# EAGLE library part ATSAMA5D3 (library atmel-custom)
The SAMA5D35 is an ARM® Cortex™-A5 processor-based embedded microprocessor unit (eMPU) operating at 536MHz (850DMIPS).
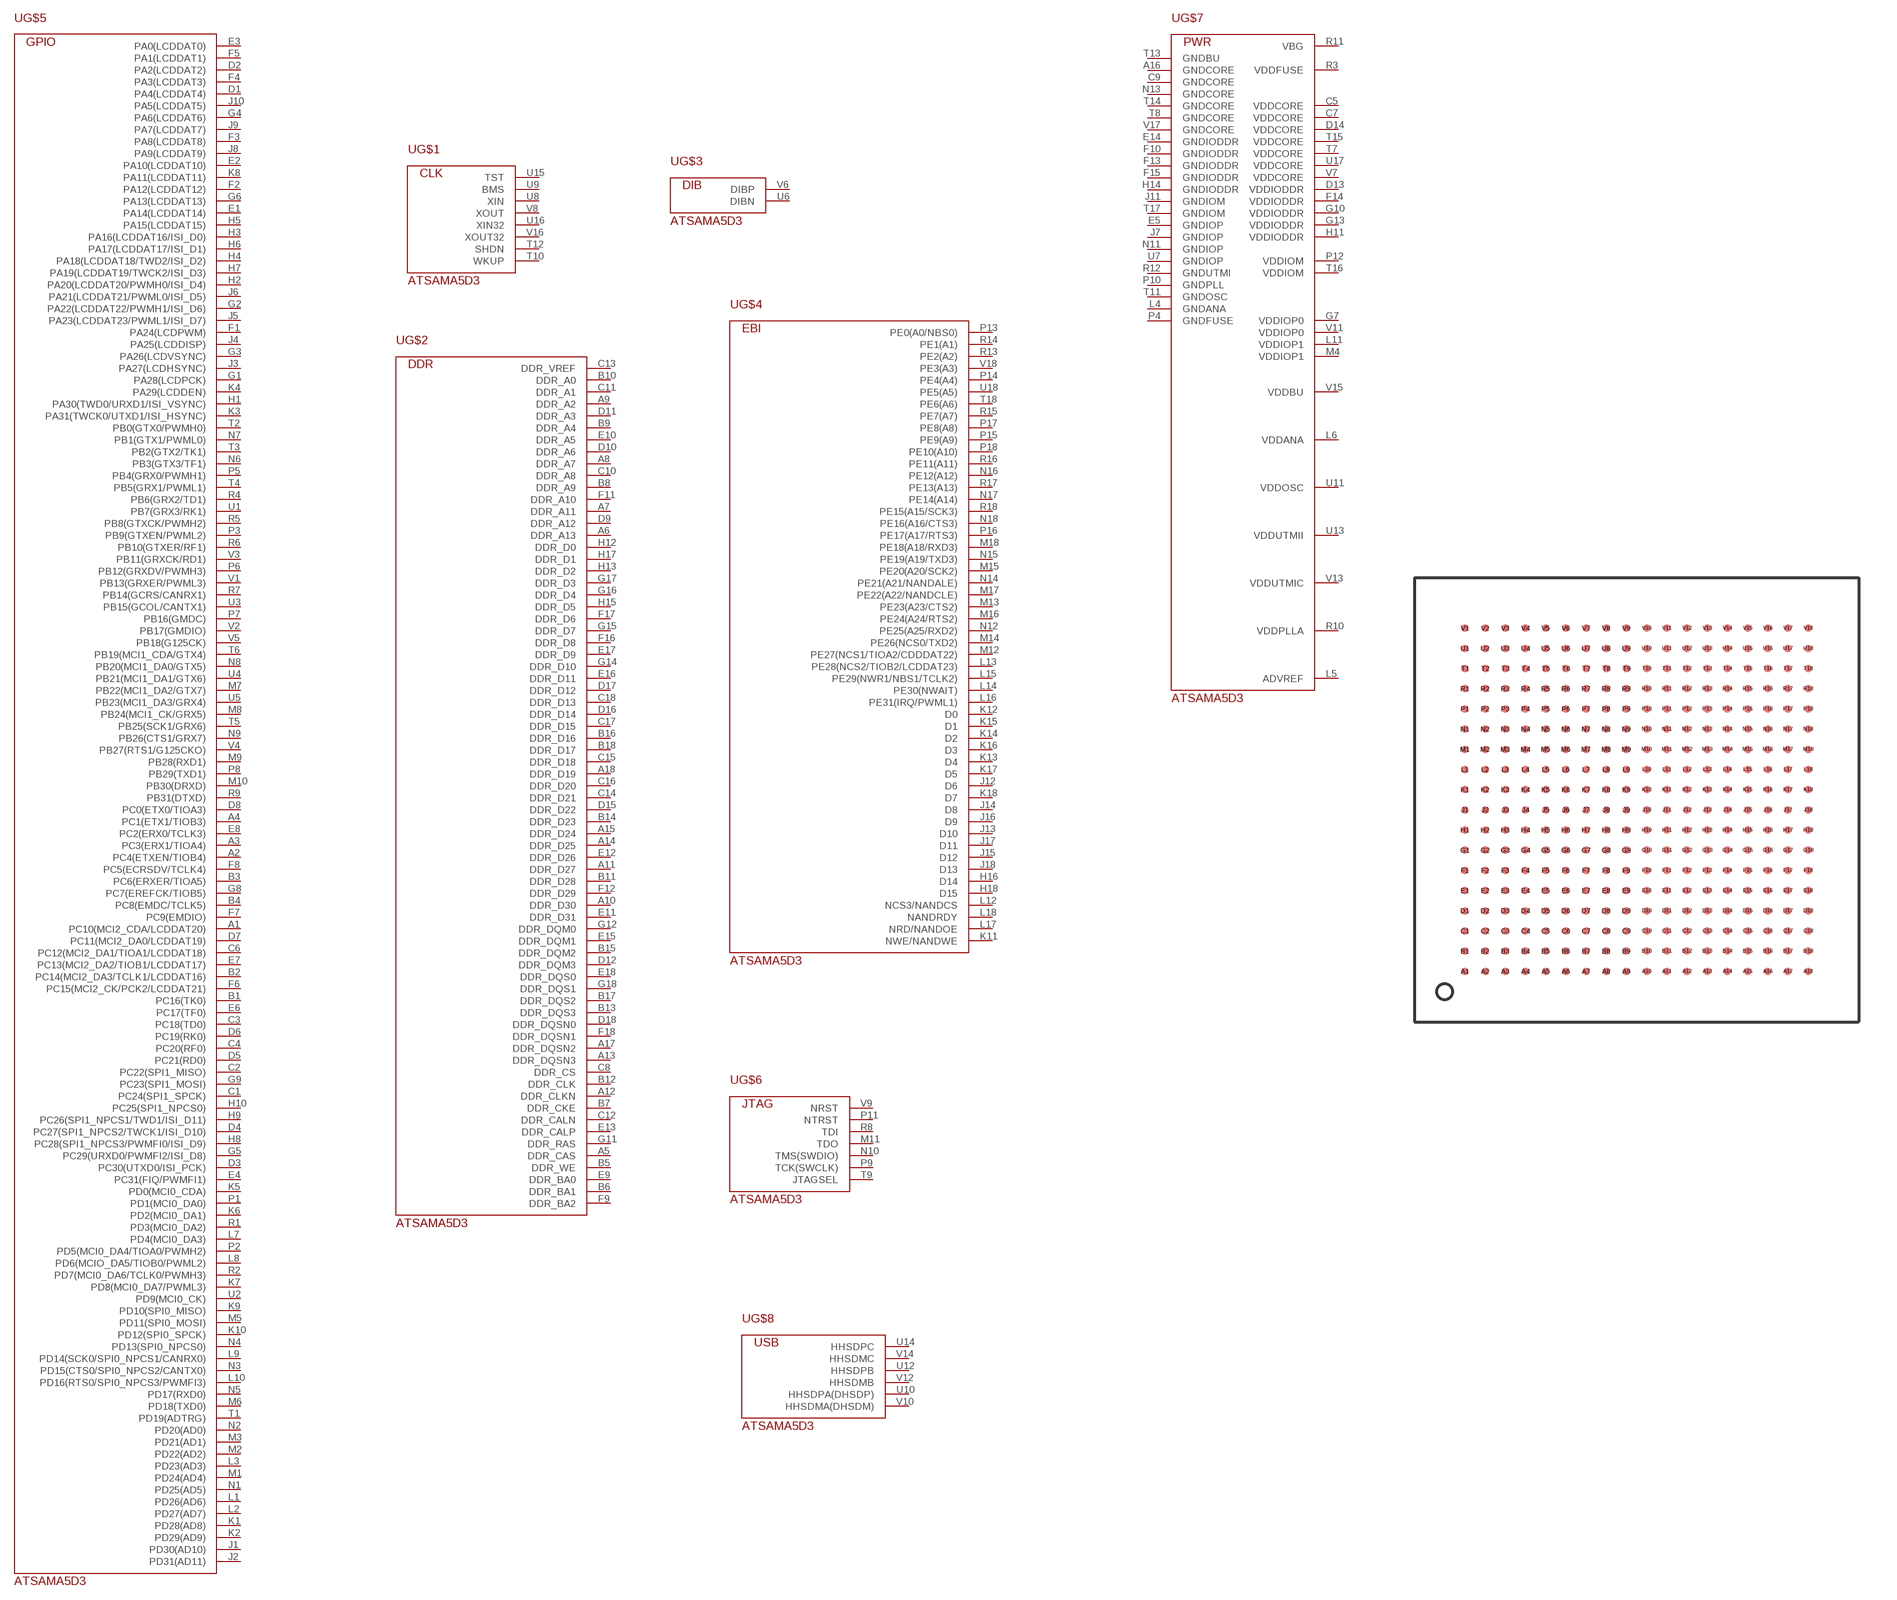
[diagram p1: symbol with the pads of LFBGA-324; footprint LFBGA-324]

Designator prefix -; gates G$1=ATSAMA5D3-CLK G$2=ATSAMA5D3-DDR G$3=ATSAMA5D3-DIB G$4=ATSAMA5D3-EBI G$5=ATSAMA5D3-GPIO G$6=ATSAMA5D3-JTAG G$7=ATSAMA5D3-PWR G$8=ATSAMA5D3-USB

## ATSAMA5D3  [LFBGA-324]
A1  G$5:PC10(MCI2_CDA/LCDDAT20)
A2  G$5:PC4(ETXEN/TIOB4)
A3  G$5:PC3(ERX1/TIOA4)
A4  G$5:PC1(ETX1/TIOB3)
A5  G$2:DDR_CAS
A6  G$2:DDR_A13
A7  G$2:DDR_A11
A8  G$2:DDR_A7
A9  G$2:DDR_A2
A10  G$2:DDR_D30
A11  G$2:DDR_D27
A12  G$2:DDR_CLKN
A13  G$2:DDR_DQSN3
A14  G$2:DDR_D25
A15  G$2:DDR_D24
A16  G$7:GNDCORE
A17  G$2:DDR_DQSN2
A18  G$2:DDR_D19
B1  G$5:PC16(TK0)
B2  G$5:PC14(MCI2_DA3/TCLK1/LCDDAT16)
B3  G$5:PC6(ERXER/TIOA5)
B4  G$5:PC8(EMDC/TCLK5)
B5  G$2:DDR_WE
B6  G$2:DDR_BA1
B7  G$2:DDR_CKE
B8  G$2:DDR_A9
B9  G$2:DDR_A4
B10  G$2:DDR_A0
B11  G$2:DDR_D28
B12  G$2:DDR_CLK
B13  G$2:DDR_DQS3
B14  G$2:DDR_D23
B15  G$2:DDR_DQM2
B16  G$2:DDR_D16
B17  G$2:DDR_DQS2
B18  G$2:DDR_D17
C1  G$5:PC24(SPI1_SPCK)
C2  G$5:PC22(SPI1_MISO)
C3  G$5:PC18(TD0)
C4  G$5:PC20(RF0)
C5  G$7:VDDCORE
C6  G$5:PC12(MCI2_DA1/TIOA1/LCDDAT18)
C7  G$7:VDDCORE
C8  G$2:DDR_CS
C9  G$7:GNDCORE
C10  G$2:DDR_A8
C11  G$2:DDR_A1
C12  G$2:DDR_CALN
C13  G$2:DDR_VREF
C14  G$2:DDR_D21
C15  G$2:DDR_D18
C16  G$2:DDR_D20
C17  G$2:DDR_D15
C18  G$2:DDR_D13
D1  G$5:PA4(LCDDAT4)
D2  G$5:PA2(LCDDAT2)
D3  G$5:PC30(UTXD0/ISI_PCK)
D4  G$5:PC27(SPI1_NPCS2/TWCK1/ISI_D10)
D5  G$5:PC21(RD0)
D6  G$5:PC19(RK0)
D7  G$5:PC11(MCI2_DA0/LCDDAT19)
D8  G$5:PC0(ETX0/TIOA3)
D9  G$2:DDR_A12
D10  G$2:DDR_A6
D11  G$2:DDR_A3
D12  G$2:DDR_DQM3
D13  G$7:VDDIODDR
D14  G$7:VDDCORE
D15  G$2:DDR_D22
D16  G$2:DDR_D14
D17  G$2:DDR_D12
D18  G$2:DDR_DQSN0
E1  G$5:PA14(LCDDAT14)
E2  G$5:PA10(LCDDAT10)
E3  G$5:PA0(LCDDAT0)
E4  G$5:PC31(FIQ/PWMFI1)
E5  G$7:GNDIOP
E6  G$5:PC17(TF0)
E7  G$5:PC13(MCI2_DA2/TIOB1/LCDDAT17)
E8  G$5:PC2(ERX0/TCLK3)
E9  G$2:DDR_BA0
E10  G$2:DDR_A5
E11  G$2:DDR_D31
E12  G$2:DDR_D26
E13  G$2:DDR_CALP
E14  G$7:GNDIODDR
E15  G$2:DDR_DQM1
E16  G$2:DDR_D11
E17  G$2:DDR_D9
E18  G$2:DDR_DQS0
F1  G$5:PA24(LCDPWM)
F2  G$5:PA12(LCDDAT12)
F3  G$5:PA8(LCDDAT8)
F4  G$5:PA3(LCDDAT3)
F5  G$5:PA1(LCDDAT1)
F6  G$5:PC15(MCI2_CK/PCK2/LCDDAT21)
F7  G$5:PC9(EMDIO)
F8  G$5:PC5(ECRSDV/TCLK4)
F9  G$2:DDR_BA2
F10  G$7:GNDIODDR
F11  G$2:DDR_A10
F12  G$2:DDR_D29
F13  G$7:GNDIODDR
F14  G$7:VDDIODDR
F15  G$7:GNDIODDR
F16  G$2:DDR_D8
F17  G$2:DDR_D6
F18  G$2:DDR_DQSN1
G1  G$5:PA28(LCDPCK)
G2  G$5:PA22(LCDDAT22/PWMH1/ISI_D6)
G3  G$5:PA26(LCDVSYNC)
G4  G$5:PA6(LCDDAT6)
G5  G$5:PC29(URXD0/PWMFI2/ISI_D8)
G6  G$5:PA13(LCDDAT13)
G7  G$7:VDDIOP0
G8  G$5:PC7(EREFCK/TIOB5)
G9  G$5:PC23(SPI1_MOSI)
G10  G$7:VDDIODDR
G11  G$2:DDR_RAS
G12  G$2:DDR_DQM0
G13  G$7:VDDIODDR
G14  G$2:DDR_D10
G15  G$2:DDR_D7
G16  G$2:DDR_D4
G17  G$2:DDR_D3
G18  G$2:DDR_DQS1
H1  G$5:PA30(TWD0/URXD1/ISI_VSYNC)
H2  G$5:PA20(LCDDAT20/PWMH0/ISI_D4)
H3  G$5:PA16(LCDDAT16/ISI_D0)
H4  G$5:PA18(LCDDAT18/TWD2/ISI_D2)
H5  G$5:PA15(LCDDAT15)
H6  G$5:PA17(LCDDAT17/ISI_D1)
H7  G$5:PA19(LCDDAT19/TWCK2/ISI_D3)
H8  G$5:PC28(SPI1_NPCS3/PWMFI0/ISI_D9)
H9  G$5:PC26(SPI1_NPCS1/TWD1/ISI_D11)
H10  G$5:PC25(SPI1_NPCS0)
H11  G$7:VDDIODDR
H12  G$2:DDR_D0
H13  G$2:DDR_D2
H14  G$7:GNDIODDR
H15  G$2:DDR_D5
H16  G$4:D14
H17  G$2:DDR_D1
H18  G$4:D15
J1  G$5:PD30(AD10)
J2  G$5:PD31(AD11)
J3  G$5:PA27(LCDHSYNC)
J4  G$5:PA25(LCDDISP)
J5  G$5:PA23(LCDDAT23/PWML1/ISI_D7)
J6  G$5:PA21(LCDDAT21/PWML0/ISI_D5)
J7  G$7:GNDIOP
J8  G$5:PA9(LCDDAT9)
J9  G$5:PA7(LCDDAT7)
J10  G$5:PA5(LCDDAT5)
J11  G$7:GNDIOM
J12  G$4:D6
J13  G$4:D10
J14  G$4:D8
J15  G$4:D12
J16  G$4:D9
J17  G$4:D11
J18  G$4:D13
K1  G$5:PD28(AD8)
K2  G$5:PD29(AD9)
K3  G$5:PA31(TWCK0/UTXD1/ISI_HSYNC)
K4  G$5:PA29(LCDDEN)
K5  G$5:PD0(MCI0_CDA)
K6  G$5:PD2(MCI0_DA1)
K7  G$5:PD8(MCI0_DA7/PWML3)
K8  G$5:PA11(LCDDAT11)
K9  G$5:PD10(SPI0_MISO)
K10  G$5:PD12(SPI0_SPCK)
K11  G$4:NWE/NANDWE
K12  G$4:D0
K13  G$4:D4
K14  G$4:D2
K15  G$4:D1
K16  G$4:D3
K17  G$4:D5
K18  G$4:D7
L1  G$5:PD26(AD6)
L2  G$5:PD27(AD7)
L3  G$5:PD23(AD3)
L4  G$7:GNDANA
L5  G$7:ADVREF
L6  G$7:VDDANA
L7  G$5:PD4(MCI0_DA3)
L8  G$5:PD6(MCIO_DA5/TIOB0/PWML2)
L9  G$5:PD14(SCK0/SPI0_NPCS1/CANRX0)
L10  G$5:PD16(RTS0/SPI0_NPCS3/PWMFI3)
L11  G$7:VDDIOP1
L12  G$4:NCS3/NANDCS
L13  G$4:PE28(NCS2/TIOB2/LCDDAT23)
L14  G$4:PE30(NWAIT)
L15  G$4:PE29(NWR1/NBS1/TCLK2)
L16  G$4:PE31(IRQ/PWML1)
L17  G$4:NRD/NANDOE
L18  G$4:NANDRDY
M1  G$5:PD24(AD4)
M2  G$5:PD22(AD2)
M3  G$5:PD21(AD1)
M4  G$7:VDDIOP1
M5  G$5:PD11(SPI0_MOSI)
M6  G$5:PD18(TXD0)
M7  G$5:PB22(MCI1_DA2/GTX7)
M8  G$5:PB24(MCI1_CK/GRX5)
M9  G$5:PB28(RXD1)
M10  G$5:PB30(DRXD)
M11  G$6:TDO
M12  G$4:PE27(NCS1/TIOA2/CDDDAT22)
M13  G$4:PE23(A23/CTS2)
M14  G$4:PE26(NCS0/TXD2)
M15  G$4:PE20(A20/SCK2)
M16  G$4:PE24(A24/RTS2)
M17  G$4:PE22(A22/NANDCLE)
M18  G$4:PE18(A18/RXD3)
N1  G$5:PD25(AD5)
N2  G$5:PD20(AD0)
N3  G$5:PD15(CTS0/SPI0_NPCS2/CANTX0)
N4  G$5:PD13(SPI0_NPCS0)
N5  G$5:PD17(RXD0)
N6  G$5:PB3(GTX3/TF1)
N7  G$5:PB1(GTX1/PWML0)
N8  G$5:PB20(MCI1_DA0/GTX5)
N9  G$5:PB26(CTS1/GRX7)
N10  G$6:TMS(SWDIO)
N11  G$7:GNDIOP
N12  G$4:PE25(A25/RXD2)
N13  G$7:GNDCORE
N14  G$4:PE21(A21/NANDALE)
N15  G$4:PE19(A19/TXD3)
N16  G$4:PE12(A12)
N17  G$4:PE14(A14)
N18  G$4:PE16(A16/CTS3)
P1  G$5:PD1(MCI0_DA0)
P2  G$5:PD5(MCI0_DA4/TIOA0/PWMH2)
P3  G$5:PB9(GTXEN/PWML2)
P4  G$7:GNDFUSE
P5  G$5:PB4(GRX0/PWMH1)
P6  G$5:PB12(GRXDV/PWMH3)
P7  G$5:PB16(GMDC)
P8  G$5:PB29(TXD1)
P9  G$6:TCK(SWCLK)
P10  G$7:GNDPLL
P11  G$6:NTRST
P12  G$7:VDDIOM
P13  G$4:PE0(A0/NBS0)
P14  G$4:PE4(A4)
P15  G$4:PE9(A9)
P16  G$4:PE17(A17/RTS3)
P17  G$4:PE8(A8)
P18  G$4:PE10(A10)
R1  G$5:PD3(MCI0_DA2)
R2  G$5:PD7(MCI0_DA6/TCLK0/PWMH3)
R3  G$7:VDDFUSE
R4  G$5:PB6(GRX2/TD1)
R5  G$5:PB8(GTXCK/PWMH2)
R6  G$5:PB10(GTXER/RF1)
R7  G$5:PB14(GCRS/CANRX1)
R8  G$6:TDI
R9  G$5:PB31(DTXD)
R10  G$7:VDDPLLA
R11  G$7:VBG
R12  G$7:GNDUTMI
R13  G$4:PE2(A2)
R14  G$4:PE1(A1)
R15  G$4:PE7(A7)
R16  G$4:PE11(A11)
R17  G$4:PE13(A13)
R18  G$4:PE15(A15/SCK3)
T1  G$5:PD19(ADTRG)
T2  G$5:PB0(GTX0/PWMH0)
T3  G$5:PB2(GTX2/TK1)
T4  G$5:PB5(GRX1/PWML1)
T5  G$5:PB25(SCK1/GRX6)
T6  G$5:PB19(MCI1_CDA/GTX4)
T7  G$7:VDDCORE
T8  G$7:GNDCORE
T9  G$6:JTAGSEL
T10  G$1:WKUP
T11  G$7:GNDOSC
T12  G$1:SHDN
T13  G$7:GNDBU
T14  G$7:GNDCORE
T15  G$7:VDDCORE
T16  G$7:VDDIOM
T17  G$7:GNDIOM
T18  G$4:PE6(A6)
U1  G$5:PB7(GRX3/RK1)
U2  G$5:PD9(MCI0_CK)
U3  G$5:PB15(GCOL/CANTX1)
U4  G$5:PB21(MCI1_DA1/GTX6)
U5  G$5:PB23(MCI1_DA3/GRX4)
U6  G$3:DIBN
U7  G$7:GNDIOP
U8  G$1:XIN
U9  G$1:BMS
U10  G$8:HHSDPA(DHSDP)
U11  G$7:VDDOSC
U12  G$8:HHSDPB
U13  G$7:VDDUTMII
U14  G$8:HHSDPC
U15  G$1:TST
U16  G$1:XIN32
U17  G$7:VDDCORE
U18  G$4:PE5(A5)
V1  G$5:PB13(GRXER/PWML3)
V2  G$5:PB17(GMDIO)
V3  G$5:PB11(GRXCK/RD1)
V4  G$5:PB27(RTS1/G125CKO)
V5  G$5:PB18(G125CK)
V6  G$3:DIBP
V7  G$7:VDDCORE
V8  G$1:XOUT
V9  G$6:NRST
V10  G$8:HHSDMA(DHSDM)
V11  G$7:VDDIOP0
V12  G$8:HHSDMB
V13  G$7:VDDUTMIC
V14  G$8:HHSDMC
V15  G$7:VDDBU
V16  G$1:XOUT32
V17  G$7:GNDCORE
V18  G$4:PE3(A3)

## Footprint LFBGA-324 (pad centres in mm)
NXP LFBGA 324 http://www.nxp.com/documents/application_note/AN10778.pdf
smd 0.3 x 0.3: A1 0,-13.6; A2 0.8,-13.6; A3 1.6,-13.6; A4 2.4,-13.6; A5 3.2,-13.6; A6 4,-13.6; A7 4.8,-13.6; A8 5.6,-13.6; A9 6.4,-13.6; A10 7.2,-13.6; A11 8,-13.6; A12 8.8,-13.6; A13 9.6,-13.6; A14 10.4,-13.6; A15 11.2,-13.6; A16 12,-13.6; A17 12.8,-13.6; A18 13.6,-13.6; B1 0,-12.8; B2 0.8,-12.8; B3 1.6,-12.8; B4 2.4,-12.8; B5 3.2,-12.8; B6 4,-12.8; B7 4.8,-12.8; B8 5.6,-12.8; B9 6.4,-12.8; B10 7.2,-12.8; B11 8,-12.8; B12 8.8,-12.8; B13 9.6,-12.8; B14 10.4,-12.8; B15 11.2,-12.8; B16 12,-12.8; B17 12.8,-12.8; B18 13.6,-12.8; C1 0,-12; C2 0.8,-12; C3 1.6,-12; C4 2.4,-12; C5 3.2,-12; C6 4,-12; C7 4.8,-12; C8 5.6,-12; C9 6.4,-12; C10 7.2,-12; C11 8,-12; C12 8.8,-12; C13 9.6,-12; C14 10.4,-12; C15 11.2,-12; C16 12,-12; C17 12.8,-12; C18 13.6,-12; D1 0,-11.2; D2 0.8,-11.2; D3 1.6,-11.2; D4 2.4,-11.2; D5 3.2,-11.2; D6 4,-11.2; D7 4.8,-11.2; D8 5.6,-11.2; D9 6.4,-11.2; D10 7.2,-11.2; D11 8,-11.2; D12 8.8,-11.2; D13 9.6,-11.2; D14 10.4,-11.2; D15 11.2,-11.2; D16 12,-11.2; D17 12.8,-11.2; D18 13.6,-11.2; E1 0,-10.4; E2 0.8,-10.4; E3 1.6,-10.4; E4 2.4,-10.4; E5 3.2,-10.4; E6 4,-10.4; E7 4.8,-10.4; E8 5.6,-10.4; E9 6.4,-10.4; E10 7.2,-10.4; E11 8,-10.4; E12 8.8,-10.4; E13 9.6,-10.4; E14 10.4,-10.4; E15 11.2,-10.4; E16 12,-10.4; E17 12.8,-10.4; E18 13.6,-10.4; F1 0,-9.6; F2 0.8,-9.6; F3 1.6,-9.6; F4 2.4,-9.6; F5 3.2,-9.6; F6 4,-9.6; F7 4.8,-9.6; F8 5.6,-9.6; F9 6.4,-9.6; F10 7.2,-9.6; F11 8,-9.6; F12 8.8,-9.6; F13 9.6,-9.6; F14 10.4,-9.6; F15 11.2,-9.6; F16 12,-9.6; F17 12.8,-9.6; F18 13.6,-9.6; G1 0,-8.8; G2 0.8,-8.8; G3 1.6,-8.8; G4 2.4,-8.8; G5 3.2,-8.8; G6 4,-8.8; G7 4.8,-8.8; G8 5.6,-8.8; G9 6.4,-8.8; G10 7.2,-8.8; G11 8,-8.8; G12 8.8,-8.8; G13 9.6,-8.8; G14 10.4,-8.8; G15 11.2,-8.8; G16 12,-8.8; G17 12.8,-8.8; G18 13.6,-8.8; H1 0,-8; H2 0.8,-8; H3 1.6,-8; H4 2.4,-8; H5 3.2,-8; H6 4,-8; H7 4.8,-8; H8 5.6,-8; H9 6.4,-8; H10 7.2,-8; H11 8,-8; H12 8.8,-8; H13 9.6,-8; H14 10.4,-8; H15 11.2,-8; H16 12,-8; H17 12.8,-8; H18 13.6,-8; J1 0,-7.2; J2 0.8,-7.2; J3 1.6,-7.2; J4 2.4,-7.2; J5 3.2,-7.2; J6 4,-7.2; J7 4.8,-7.2; J8 5.6,-7.2; J9 6.4,-7.2; J10 7.2,-7.2; J11 8,-7.2; J12 8.8,-7.2; J13 9.6,-7.2; J14 10.4,-7.2; J15 11.2,-7.2; J16 12,-7.2; J17 12.8,-7.2; J18 13.6,-7.2; K1 0,-6.4; K2 0.8,-6.4; K3 1.6,-6.4; K4 2.4,-6.4; K5 3.2,-6.4; K6 4,-6.4; K7 4.8,-6.4; K8 5.6,-6.4; K9 6.4,-6.4; K10 7.2,-6.4; K11 8,-6.4; K12 8.8,-6.4; K13 9.6,-6.4; K14 10.4,-6.4; K15 11.2,-6.4; K16 12,-6.4; K17 12.8,-6.4; K18 13.6,-6.4; L1 0,-5.6; L2 0.8,-5.6; L3 1.6,-5.6; L4 2.4,-5.6; L5 3.2,-5.6; L6 4,-5.6; L7 4.8,-5.6; L8 5.6,-5.6; L9 6.4,-5.6; L10 7.2,-5.6; L11 8,-5.6; L12 8.8,-5.6; L13 9.6,-5.6; L14 10.4,-5.6; L15 11.2,-5.6; L16 12,-5.6; L17 12.8,-5.6; L18 13.6,-5.6; M1 0,-4.8; M2 0.8,-4.8; M3 1.6,-4.8; M4 2.4,-4.8; M5 3.2,-4.8; M6 4,-4.8; M7 4.8,-4.8; M8 5.6,-4.8; M9 6.4,-4.8; M10 7.2,-4.8; M11 8,-4.8; M12 8.8,-4.8; M13 9.6,-4.8; M14 10.4,-4.8; M15 11.2,-4.8; M16 12,-4.8; M17 12.8,-4.8; M18 13.6,-4.8; N1 0,-4; N2 0.8,-4; N3 1.6,-4; N4 2.4,-4; N5 3.2,-4; N6 4,-4; N7 4.8,-4; N8 5.6,-4; N9 6.4,-4; N10 7.2,-4; N11 8,-4; N12 8.8,-4; N13 9.6,-4; N14 10.4,-4; N15 11.2,-4; N16 12,-4; N17 12.8,-4; N18 13.6,-4; P1 0,-3.2; P2 0.8,-3.2; P3 1.6,-3.2; P4 2.4,-3.2; P5 3.2,-3.2; P6 4,-3.2; P7 4.8,-3.2; P8 5.6,-3.2; P9 6.4,-3.2; P10 7.2,-3.2; P11 8,-3.2; P12 8.8,-3.2; P13 9.6,-3.2; P14 10.4,-3.2; P15 11.2,-3.2; P16 12,-3.2; P17 12.8,-3.2; P18 13.6,-3.2; R1 0,-2.4; R2 0.8,-2.4; R3 1.6,-2.4; R4 2.4,-2.4; R5 3.2,-2.4; R6 4,-2.4; R7 4.8,-2.4; R8 5.6,-2.4; R9 6.4,-2.4; R10 7.2,-2.4; R11 8,-2.4; R12 8.8,-2.4; R13 9.6,-2.4; R14 10.4,-2.4; R15 11.2,-2.4; R16 12,-2.4; R17 12.8,-2.4; R18 13.6,-2.4; T1 0,-1.6; T2 0.8,-1.6; T3 1.6,-1.6; T4 2.4,-1.6; T5 3.2,-1.6; T6 4,-1.6; T7 4.8,-1.6; T8 5.6,-1.6; T9 6.4,-1.6; T10 7.2,-1.6; T11 8,-1.6; T12 8.8,-1.6; T13 9.6,-1.6; T14 10.4,-1.6; T15 11.2,-1.6; T16 12,-1.6; T17 12.8,-1.6; T18 13.6,-1.6; U1 0,-0.8; U2 0.8,-0.8; U3 1.6,-0.8; U4 2.4,-0.8; U5 3.2,-0.8; U6 4,-0.8; U7 4.8,-0.8; U8 5.6,-0.8; U9 6.4,-0.8; U10 7.2,-0.8; U11 8,-0.8; U12 8.8,-0.8; U13 9.6,-0.8; U14 10.4,-0.8; U15 11.2,-0.8; U16 12,-0.8; U17 12.8,-0.8; U18 13.6,-0.8; V1 0,0; V2 0.8,0; V3 1.6,0; V4 2.4,0; V5 3.2,0; V6 4,0; V7 4.8,0; V8 5.6,0; V9 6.4,0; V10 7.2,0; V11 8,0; V12 8.8,0; V13 9.6,0; V14 10.4,0; V15 11.2,0; V16 12,0; V17 12.8,0; V18 13.6,0